# EAGLE library part USB3320 (library BaseApp)
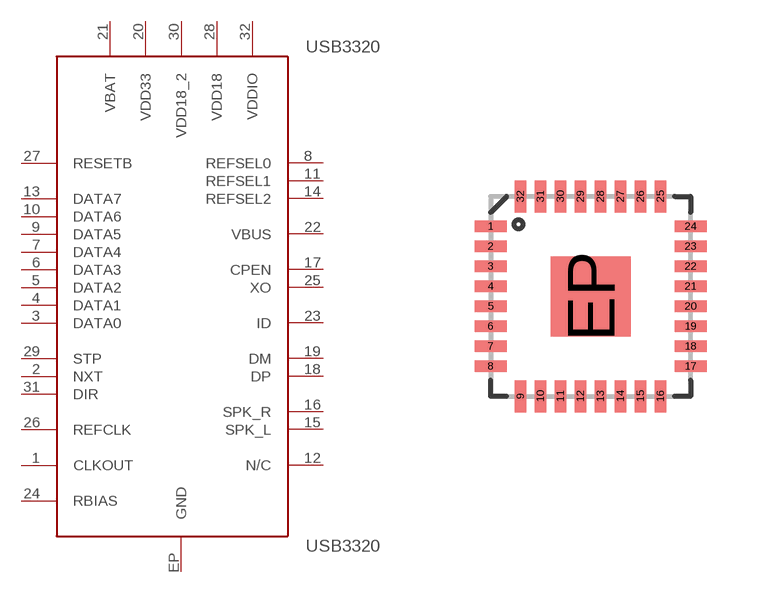
[diagram p10: symbol with the pads of 32QFN; footprint 32QFN]

Designator prefix USB3320

## USB3320  [32QFN]
1  CLKOUT
2  NXT
3  DATA0
4  DATA1
5  DATA2
6  DATA3
7  DATA4
8  REFSEL0
9  DATA5
10  DATA6
11  REFSEL1
12  N/C  nc
13  DATA7
14  REFSEL2
15  SPK_L
16  SPK_R
17  CPEN
18  DP
19  DM
20  VDD33
21  VBAT
22  VBUS
23  ID
24  RBIAS
25  XO
26  REFCLK
27  RESETB
28  VDD18
29  STP
30  VDD18_2
31  DIR
32  VDDIO
EP  GND  sup

## Footprint 32QFN (pad centres in mm)
smd 0.8 x 0.285: 1 -2.5,1.75; 2 -2.5,1.25; 3 -2.5,0.75; 4 -2.5,0.25; 5 -2.5,-0.25; 6 -2.5,-0.75; 7 -2.5,-1.25; 8 -2.5,-1.75; 17 2.5,-1.75; 18 2.5,-1.25; 19 2.5,-0.75; 20 2.5,-0.25; 21 2.5,0.25; 22 2.5,0.75; 23 2.5,1.25; 24 2.5,1.75
smd 0.285 x 0.8: 9 -1.75,-2.5; 10 -1.25,-2.5; 11 -0.75,-2.5; 12 -0.25,-2.5; 13 0.25,-2.5; 14 0.75,-2.5; 15 1.25,-2.5; 16 1.75,-2.5; 25 1.75,2.5; 26 1.25,2.5; 27 0.75,2.5; 28 0.25,2.5; 29 -0.25,2.5; 30 -0.75,2.5; 31 -1.25,2.5; 32 -1.75,2.5
smd 2 x 2: EP 0,0